# EAGLE library part DMG1023UV-7 (library mosfet)
Mosfet Array 2 P-Channel (Dual) 20V 1.03A 530mW Surface Mount SOT-563
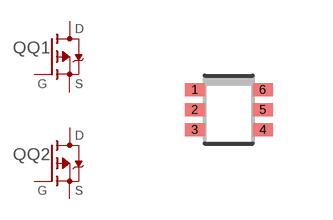
[diagram p0: symbol with the pads of SOT-563; footprint SOT-563]

Designator prefix Q; gates Q1=P-MOSFET Q2=P-MOSFET

## DMG1023UV-7 (DIGIKEY#: DMG1023UV-7DICT-ND; MANF: Diodes Incorporated; MANF#: DMG1023UV-7; PACKAGE: SOT-563)  [SOT-563]
1  Q2:S  pas
2  Q2:G  pas
3  Q1:D  pas
4  Q1:S  pas
5  Q1:G  pas
6  Q2:D  pas

## Footprint SOT-563 (pad centres in mm)
smd 0.5 x 0.325: 1 -0.85,0.5; 2 -0.85,0; 3 -0.85,-0.5; 4 0.85,-0.5; 5 0.85,0; 6 0.85,0.5